# Altium footprint library Flyback_lib.PcbLib: 17 footprints (part 1 of 2)
Each footprint in its own frame and in the unit in brackets; x right, y up, seen from the top. Pads: shape width x height; smd on the part's side, far side on the other; paste and mask are expansions set on the pad; w line width, h text height; cw(c..) or ccw(c..) is an arc to the next point about the centre after c.
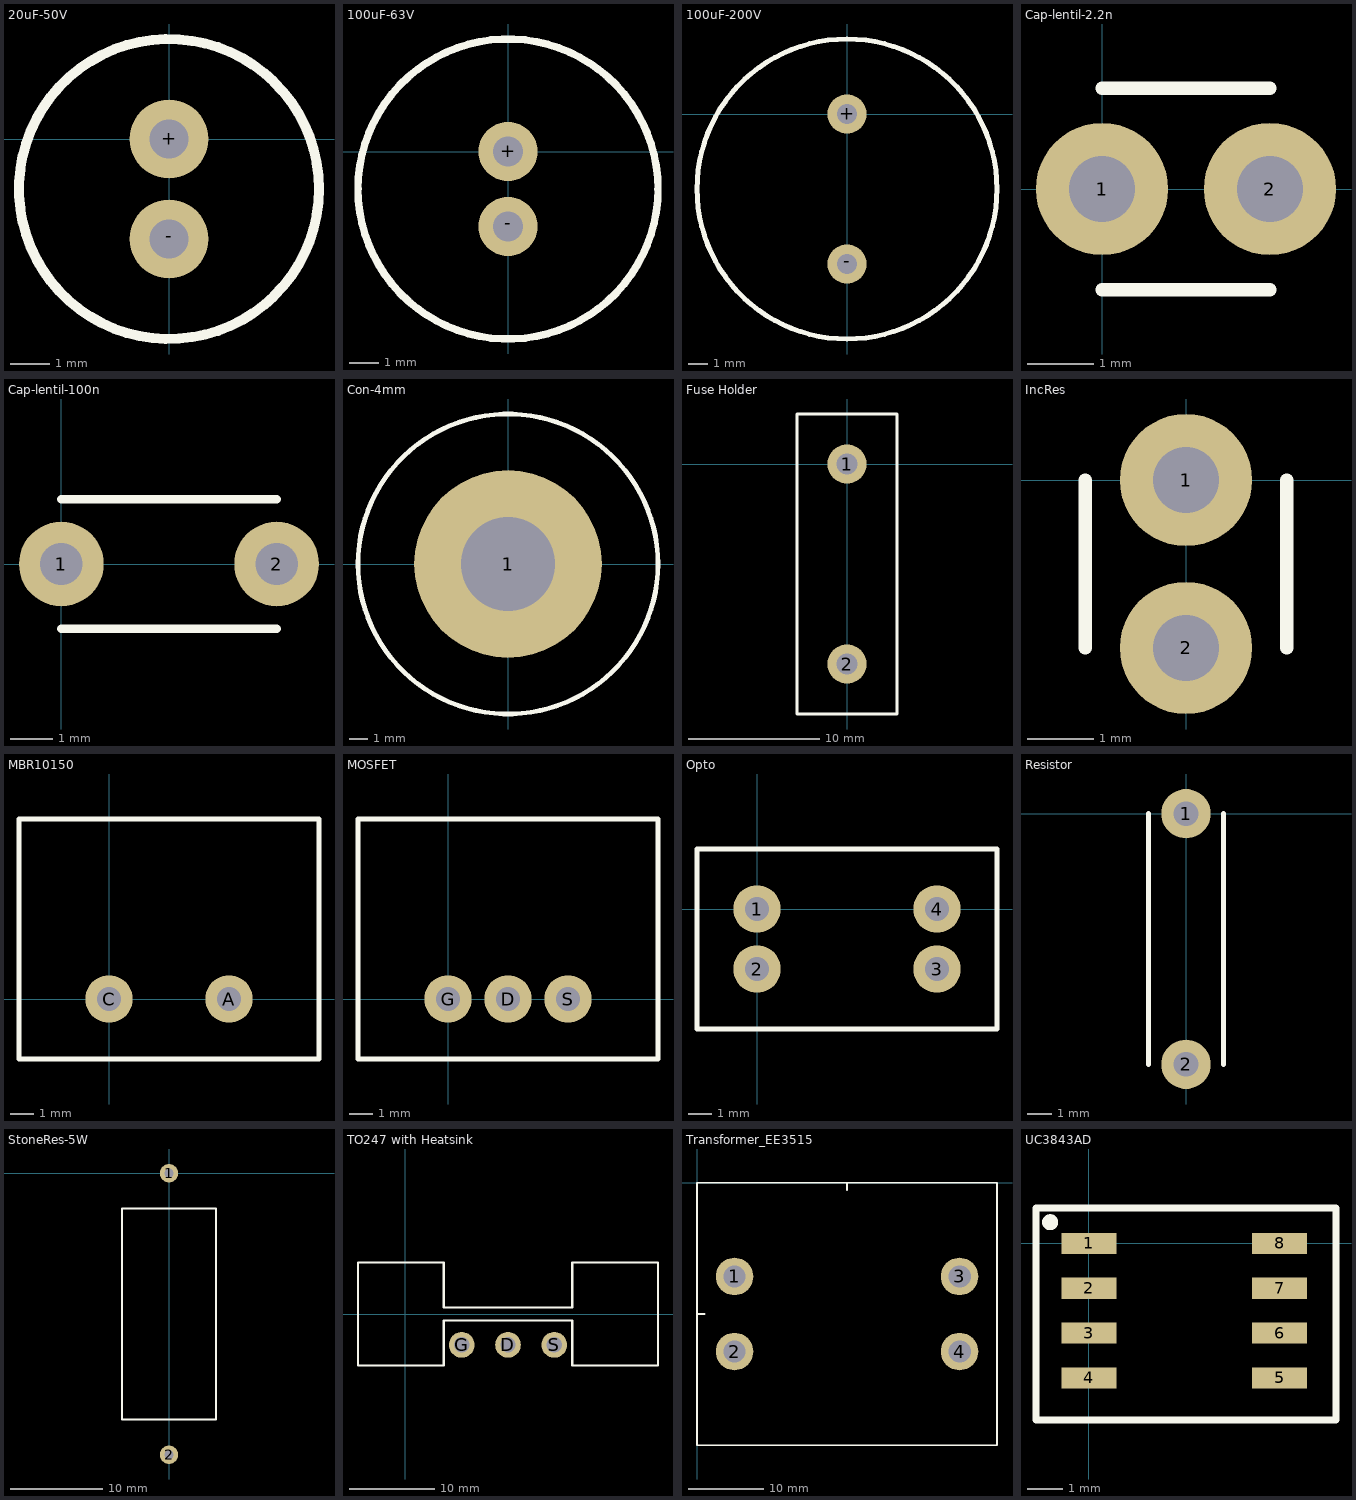
[diagram p0: the footprints below, top view; thin cyan lines are the x and y axes]

## 20uF-50V [mm]
pads (2):
  round 2 hole 1: +(0,0) -(0,-2.54)
Top Overlay:
  circle w0.254: c0,-1.27 r3.81

## 100uF-63V [mm]
pads (2):
  round 2 hole 1: +(0,0) -(0,-2.54)
Top Overlay:
  circle w0.254: c0,-1.27 r5.08

## 100uF-200V [mm]
pads (2):
  round 2 hole 1: +(0,0) -(0,-7.62)
Top Overlay:
  circle w0.254: c0,-3.81 r7.62

## Cap-lentil-2.2n [mm]
pads (2):
  round 2 hole 1: 1(0,0) 2(2.54,0)
Top Overlay:
  lines w0.2: 0,-1.524 2.54,-1.524 ; 0,1.524 2.54,1.524

## Cap-lentil-100n [mm] "C?"
pads (2):
  round 2 hole 1: 1(0,0) 2(5.08,0)
Top Overlay:
  lines w0.2: 0,-1.524 5.08,-1.524 ; 0,1.524 5.08,1.524

## Con-4mm [mm] "J?"
pads (1):
  round 10 hole 5: 1(0,0)
Top Overlay:
  circle w0.254: c0,0 r8

## Fuse Holder [mm]
pads (2):
  round 3 hole 1.6: 1(0,0) 2(0,-15.24)
Top Overlay:
  lines w0.254: -3.81,-19.05 -3.81,3.81 3.81,3.81 3.81,-19.05 -3.81,-19.05

## IncRes [mm]
pads (2):
  round 2 hole 1: 1(0,0) 2(0,-2.54)
Top Overlay:
  lines w0.2: -1.524,-2.54 -1.524,0 ; 1.524,-2.54 1.524,0

## MBR10150 [mm]
pads (2):
  round 2 hole 1: A(5.08,0) C(0,0)
Top Overlay:
  lines w0.2: -3.81,-2.54 -3.81,7.62 8.89,7.62 8.89,-2.54 -3.81,-2.54

## MOSFET [mm]
pads (3):
  round 2 hole 1: D(2.54,0) G(0,0) S(5.08,0)
Top Overlay:
  lines w0.2: -3.81,-2.54 -3.81,7.62 8.89,7.62 8.89,-2.54 -3.81,-2.54

## Opto [mm]
pads (4):
  round 2 hole 1: 1(0,0) 2(0,-2.54) 3(7.62,-2.54) 4(7.62,0)
Top Overlay:
  lines w0.2: -2.54,-5.08 -2.54,2.54 10.16,2.54 10.16,-5.08 -2.54,-5.08

## Resistor [mm] "R?"
pads (2):
  round 2 hole 1: 1(0,0) 2(0,-10.16)
Top Overlay:
  lines w0.2: -1.524,-10.16 -1.524,0 ; 1.524,-10.16 1.524,0

## StoneRes-5W [mm]
pads (2):
  round 2 hole 1: 1(0,0) 2(0,-30.48)
Top Overlay:
  lines w0.2: -5.08,-26.67 5.08,-26.67 5.08,-3.81 -5.08,-3.81 -5.08,-26.67

## TO247 with Heatsink [mm]
pads (3):
  round 3 hole 1.8: D(12,-3.6) G(6.6,-3.6) S(17.4,-3.6)
Top Overlay:
  lines w0.254: -5.5,-6 -5.5,6 4.5,6 4.5,0.75 19.5,0.75 19.5,6 29.5,6 29.5,-6 19.5,-6 19.5,-0.75 4.5,-0.75 4.5,-6 -0.5,-6 -3.5,-6 -5.5,-6

## Transformer_EE3515 [mm]
pads (4):
  round 5 hole 3: 1(5,-12.5) 2(5,-22.5) 3(35,-12.5) 4(35,-22.5)
Top Overlay:
  lines w0.254: 0,-17.5 0.5,-17.5 1,-17.5 ; 20,-1 20,0 ; 0,-35 0,0 40,0 40,-35 0,-35

## UC3843AD [mm]
pads (8):
  rect 1.55x0.6 smd mask+0.07: 1(0,0) 2(0,-1.27) 3(0,-2.54) 4(0,-3.81) 5(5.4,-3.81) 6(5.4,-2.54) 7(5.4,-1.27) 8(5.4,0)
Top Overlay:
  circle w0.254: c-1.1,0.6 r0.1
  lines w0.2: -1.5,-5 7,-5 7,1 -1.5,1 -1.5,-5